# Altium integrated library 1825059-6.IntLib: 1 symbol
Pins are listed as number, name and electrical type; pins without a type are passive.

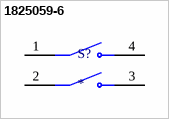
[diagram p0: symbol 1825059-6]

## 1825059-6
designator S?
SPST Flush Slide Sealed 2.54 mm Pitch Surface Mount DIP Switch; MP: 1825059-6; Price: None; Value: *; Availability: Unavailable; Package: None
footprint SW_1825059-6
pins: 1, 2, 3, 4